# EAGLE library part BD9G101G-TR (library myhvac)
The BD9G101G is switching regulator with integrated internal high-side 42V Power MOSFET. It provides 0.5A DC output with small SOT-23 package.
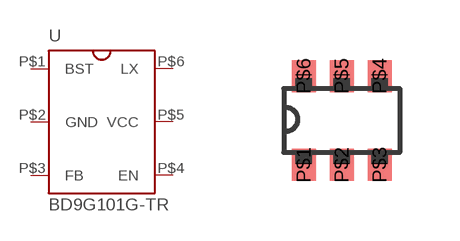
[diagram p3: symbol with the pads of SSOP6; footprint SSOP6]

Designator prefix -

## BD9G101G-TR  [SSOP6]
P$1  BST
P$2  GND
P$3  FB
P$4  EN
P$5  VCC
P$6  LX

## Footprint SSOP6 (pad centres in mm)
smd 0.6 x 0.8: P$1 -0.95,-1.11; P$2 0,-1.11; P$3 0.95,-1.11; P$4 0.95,1.11; P$5 0,1.11; P$6 -0.95,1.11